# Altium footprint library FootprintsPersonals.PcbLib: 152 footprints (part 2 of 10)
Each footprint in its own frame and in the unit in brackets; x right, y up, seen from the top. Pads: shape width x height; smd on the part's side, far side on the other; paste and mask are expansions set on the pad; w line width, h text height; cw(c..) or ccw(c..) is an arc to the next point about the centre after c.
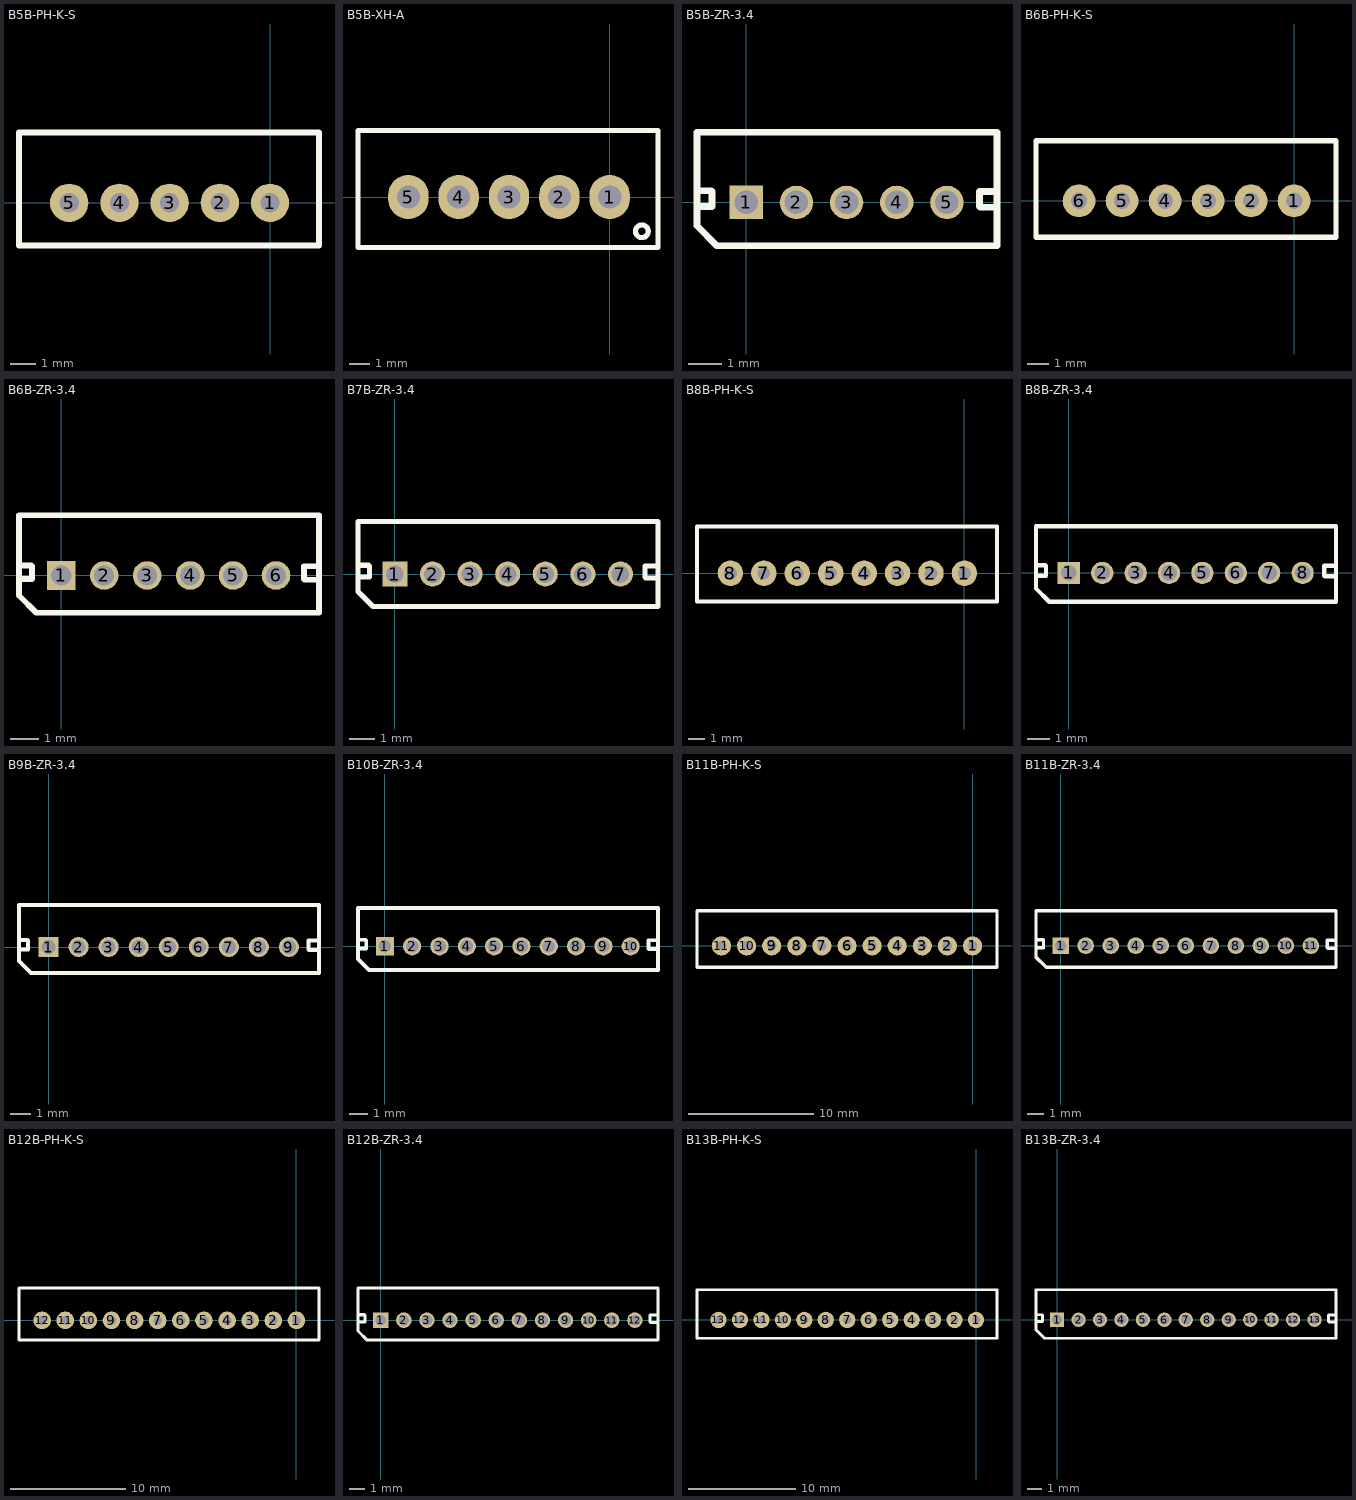
[diagram p1: the footprints below, top view; thin cyan lines are the x and y axes]

## B5B-PH-K-S [mil]
pads (5):
  round 60 hole 30: 1(0,0) 2(-78.74,0) 3(-157.48,0) 4(-236.22,0) 5(-314.96,0)
Top Overlay:
  lines w10: -393.7,-66.93 -393.7,110.24 76.77,110.24 76.77,-66.93 -393.7,-66.93
3D body "B5B-PH-K-S.STEP": height 236.7, standoff -133.38, extent -391.73,-66.93 76.77,110.24

## B5B-XH-A [mm]
pads (5):
  oval 2x2.2 hole 1.15: 1(0,0) 2(-2.5,0) 3(-5,0) 4(-7.5,0) 5(-10,0)
Top Overlay:
  circle w0.254: c1.6,-1.7 r0.316
  lines w0.254: -12.5,-2.5 2.4,-2.5 2.4,-1.9 2.4,3.3 -12.5,3.3 -12.5,-2.5
3D body "B5B-XH-A.STEP": height 7.01, standoff -3.39, extent -12.5,-2.45 2.4,3.3

## B5B-ZR-3.4 [mm]
pads (5):
  rect 1x1 hole 0.7: 1(0,0)
  round 1 hole 0.7: 2(1.5,0) 3(3,0) 4(4.5,0) 5(6,0)
Top Overlay:
  lines w0.2: -1.475,0.35 -1.05,0.35 -1.025,0.325 -1.025,-0.125 ; -1.45,-0.125 -1.025,-0.125 ; 7.4,0.325 6.975,0.325 ; 7.425,-0.15 7,-0.15 6.975,-0.125 6.975,0.325 ; -1.025,-0.125 -1.025,-0.125 ; 6.975,0.325 6.975,0.325 ; -1.475,-0.7 -1.475,2.1 7.5,2.1 7.5,-1.3 -0.875,-1.3 -1.475,-0.7
3D body "B5B-ZR-3.4.STEP": height 4.5, standoff -3.4, extent -1.5,-1.3 7.5,2.2

## B6B-PH-K-S [mil]
pads (6):
  round 60 hole 30: 1(0,0) 2(-78.74,0) 3(-157.48,0) 4(-236.22,0) 5(-314.96,0) 6(-393.7,0)
Top Overlay:
  lines w10: -472.44,-66.93 76.77,-66.93 76.77,110.24 -472.44,110.24 -472.44,-66.93
3D body "B6B-PH-K-S.STEP": height 236.7, standoff -133.38, extent -470.47,-66.93 76.77,110.24

## B6B-ZR-3.4 [mm]
pads (6):
  rect 1x1 hole 0.7: 1(0,0)
  round 1 hole 0.7: 2(1.5,0) 3(3,0) 4(4.5,0) 5(6,0) 6(7.5,0)
Top Overlay:
  lines w0.2: -1.475,0.35 -1.05,0.35 -1.025,0.325 -1.025,-0.125 ; -1.45,-0.125 -1.025,-0.125 ; 8.9,0.325 8.475,0.325 ; 8.925,-0.15 8.5,-0.15 8.475,-0.125 8.475,0.325 ; -1.025,-0.125 -1.025,-0.125 ; 8.475,0.325 8.475,0.325 ; -1.475,-0.7 -1.475,2.1 9,2.1 9,-1.3 -0.875,-1.3 -1.475,-0.7
3D body "B6B-ZR-3.4.STEP": height 4.5, standoff -3.4, extent -1.5,-1.3 9,2.2

## B7B-ZR-3.4 [mm]
pads (7):
  rect 1x1 hole 0.7: 1(0,0)
  round 1 hole 0.7: 2(1.5,0) 3(3,0) 4(4.5,0) 5(6,0) 6(7.5,0) 7(9,0)
Top Overlay:
  lines w0.2: -1.475,0.35 -1.05,0.35 -1.025,0.325 -1.025,-0.125 ; -1.45,-0.125 -1.025,-0.125 ; 10.4,0.325 9.975,0.325 ; 10.425,-0.15 10,-0.15 9.975,-0.125 9.975,0.325 ; -1.025,-0.125 -1.025,-0.125 ; 9.975,0.325 9.975,0.325 ; -1.475,-0.7 -0.875,-1.3 10.5,-1.3 10.5,2.1 -1.475,2.1 -1.475,-0.7
3D body "B7B-ZR-3.4.STEP": height 4.5, standoff -3.4, extent -1.5,-1.3 10.5,2.2

## B8B-PH-K-S [mil]
pads (8):
  round 60 hole 30: 1(0,0) 2(-78.74,0) 3(-157.48,0) 4(-236.22,0) 5(-314.96,0) 6(-393.7,0) 7(-472.44,0) 8(-551.18,0)
Top Overlay:
  lines w10: -629.92,-66.93 76.77,-66.93 76.77,110.24 -629.92,110.24 -629.92,-66.93
3D body "B8B-PH-K-S.STEP": height 236.7, standoff -133.38, extent -627.95,-66.93 76.77,110.24

## B8B-ZR-3.4 [mm]
pads (8):
  rect 1x1 hole 0.7: 1(0,0)
  round 1 hole 0.7: 2(1.5,0) 3(3,0) 4(4.5,0) 5(6,0) 6(7.5,0) 7(9,0) 8(10.5,0)
Top Overlay:
  lines w0.2: -1.475,0.35 -1.05,0.35 -1.025,0.325 -1.025,-0.125 ; -1.45,-0.125 -1.025,-0.125 ; 11.9,0.325 11.475,0.325 ; 11.925,-0.15 11.5,-0.15 11.475,-0.125 11.475,0.325 ; -1.025,-0.125 -1.025,-0.125 ; 11.475,0.325 11.475,0.325 ; -1.475,-0.7 -0.875,-1.3 12,-1.3 12,2.1 -1.475,2.1 -1.475,-0.7
3D body "B8B-ZR-3.4.STEP": height 4.5, standoff -3.4, extent -1.45,-1.3 12.05,2.2

## B9B-ZR-3.4 [mm]
pads (9):
  rect 1x1 hole 0.7: 1(0,0)
  round 1 hole 0.7: 2(1.5,0) 3(3,0) 4(4.5,0) 5(6,0) 6(7.5,0) 7(9,0) 8(10.5,0) 9(12,0)
Top Overlay:
  lines w0.2: -1.475,0.35 -1.05,0.35 -1.025,0.325 -1.025,-0.125 ; -1.45,-0.125 -1.025,-0.125 ; 13.4,0.325 12.975,0.325 ; 13.425,-0.15 13,-0.15 12.975,-0.125 12.975,0.325 ; -1.025,-0.125 -1.025,-0.125 ; 12.975,0.325 12.975,0.325 ; -1.475,-0.7 -0.875,-1.3 13.5,-1.3 13.5,2.1 -1.475,2.1 -1.475,-0.7
3D body "B9B-ZR-3.4.STEP": height 4.5, standoff -3.4, extent -1.5,-1.3 13.5,2.2

## B10B-ZR-3.4 [mm]
pads (10):
  rect 1x1 hole 0.7: 1(0,0)
  round 1 hole 0.7: 2(1.5,0) 3(3,0) 4(4.5,0) 5(6,0) 6(7.5,0) 7(9,0) 8(10.5,0) 9(12,0) 10(13.5,0)
Top Overlay:
  lines w0.2: -1.475,0.35 -1.05,0.35 -1.025,0.325 -1.025,-0.125 ; -1.45,-0.125 -1.025,-0.125 ; 14.9,0.325 14.475,0.325 ; 14.925,-0.15 14.5,-0.15 14.475,-0.125 14.475,0.325 ; -1.025,-0.125 -1.025,-0.125 ; 14.475,0.325 14.475,0.325 ; -1.475,-0.7 -0.875,-1.3 15,-1.3 15,2.1 -1.475,2.1 -1.475,-0.7
3D body "B10B-ZR-3.4.STEP": height 4.5, standoff -3.4, extent -1.5,-1.3 15,2.2

## B11B-PH-K-S [mil]
pads (11):
  round 60 hole 30: 1(0,0) 2(-78.74,0) 3(-157.48,0) 4(-236.22,0) 5(-314.96,0) 6(-393.7,0) 7(-472.44,0) 8(-551.18,0) 9(-629.92,0) 10(-708.66,0) 11(-787.4,0)
Top Overlay:
  lines w10: -864.17,-66.93 -635.83,-66.93 76.77,-66.93 76.77,110.24 -864.17,110.24 -864.17,-66.93
3D body "B11B-PH-K-S.STEP": height 236.22, standoff -133.86, extent -864.17,-68.9 76.77,108.27

## B11B-ZR-3.4 [mm]
pads (11):
  rect 1x1 hole 0.7: 1(0,0)
  round 1 hole 0.7: 2(1.5,0) 3(3,0) 4(4.5,0) 5(6,0) 6(7.5,0) 7(9,0) 8(10.5,0) 9(12,0) 10(13.5,0) 11(15,0)
Top Overlay:
  lines w0.2: -1.475,0.35 -1.05,0.35 -1.025,0.325 -1.025,-0.125 ; -1.45,-0.125 -1.025,-0.125 ; 16.4,0.325 15.975,0.325 ; 16.425,-0.15 16,-0.15 15.975,-0.125 15.975,0.325 ; -1.025,-0.125 -1.025,-0.125 ; 15.975,0.325 15.975,0.325 ; -1.475,-0.7 -1.475,2.1 16.5,2.1 16.5,-1.3 -0.875,-1.3 -1.475,-0.7
3D body "B11B-ZR-3.4.STEP": height 4.5, standoff -3.4, extent -1.5,-1.3 16.5,2.2

## B12B-PH-K-S [mil]
pads (12):
  round 60 hole 30: 1(0,0) 2(-78.74,0) 3(-157.48,0) 4(-236.22,0) 5(-314.96,0) 6(-393.7,0) 7(-472.44,0) 8(-551.18,0) 9(-629.92,0) 10(-708.66,0) 11(-787.4,0) 12(-866.14,0)
Top Overlay:
  lines w10: -944.88,-66.93 -944.88,110.24 76.77,110.24 76.77,-66.93 -635.83,-66.93 -944.88,-66.93
3D body "B12B-PH-K-S.STEP": height 236.7, standoff -133.38, extent -942.91,-66.93 76.77,110.24

## B12B-ZR-3.4 [mm]
pads (12):
  rect 1x1 hole 0.7: 1(0,0)
  round 1 hole 0.7: 2(1.5,0) 3(3,0) 4(4.5,0) 5(6,0) 6(7.5,0) 7(9,0) 8(10.5,0) 9(12,0) 10(13.5,0) 11(15,0) 12(16.5,0)
Top Overlay:
  lines w0.2: -1.475,0.35 -1.05,0.35 -1.025,0.325 -1.025,-0.125 ; -1.45,-0.125 -1.025,-0.125 ; 17.9,0.325 17.475,0.325 ; 17.925,-0.15 17.5,-0.15 17.475,-0.125 17.475,0.325 ; -1.025,-0.125 -1.025,-0.125 ; 17.475,0.325 17.475,0.325 ; -1.475,-0.7 -0.875,-1.3 18,-1.3 18,2.1 -1.475,2.1 -1.475,-0.7
3D body "B12B-ZR-3.4.STEP": height 4.5, standoff -3.4, extent -1.5,-1.3 18,2.2

## B13B-PH-K-S [mil]
pads (13):
  round 60 hole 30: 1(0,0) 2(-78.74,0) 3(-157.48,0) 4(-236.22,0) 5(-314.96,0) 6(-393.7,0) 7(-472.44,0) 8(-551.18,0) 9(-629.92,0) 10(-708.66,0) 11(-787.4,0) 12(-866.14,0) 13(-944.88,0)
Top Overlay:
  lines w10: -1023.62,-66.93 -1023.62,110.24 76.77,110.24 76.77,-66.93 -635.83,-66.93 -1023.62,-66.93
3D body "B13B-PH-K-S.STEP": height 236.7, standoff -133.38, extent -1021.65,-66.93 76.77,110.24

## B13B-ZR-3.4 [mm]
pads (13):
  rect 1x1 hole 0.7: 1(0,0)
  round 1 hole 0.7: 2(1.5,0) 3(3,0) 4(4.5,0) 5(6,0) 6(7.5,0) 7(9,0) 8(10.5,0) 9(12,0) 10(13.5,0) 11(15,0) 12(16.5,0) 13(18,0)
Top Overlay:
  lines w0.2: -1.475,0.35 -1.05,0.35 -1.025,0.325 -1.025,-0.125 ; -1.45,-0.125 -1.025,-0.125 ; 19.4,0.325 18.975,0.325 ; 19.425,-0.15 19,-0.15 18.975,-0.125 18.975,0.325 ; -1.025,-0.125 -1.025,-0.125 ; 18.975,0.325 18.975,0.325 ; -1.475,-0.7 -0.875,-1.3 19.5,-1.3 19.5,2.1 -1.475,2.1 -1.475,-0.7
3D body "B13B-ZR-3.4.STEP": height 4.5, standoff -3.4, extent -1.5,-1.3 19.5,2.2